# Altium integrated library Integrated_Library - 02.05.18 - 19.54.IntLib: 1 symbol
Pins are listed as number, name and electrical type; pins without a type are passive.

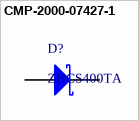
[diagram p0: symbol CMP-2000-07427-1]

## CMP-2000-07427-1
designator D?, comment ZHCS400TA
Schottky Barrier Diode, 40 V, 0.4 A, -55 to 150 degC, 2-Pin SMD, RoHS, Tape and Reel; Manufacturer: DiodesIncorporated; Type: SchottkyDiode; Vrrm - Repetitive Reverse Voltage: 40V; Ir - Reverse Current: 40uAat30V; Ifsm - Forward Surge Current: 6.75A; Vf - Forward Voltage: 1.05Vat1.5A; If - Forward Current: 1A; Configuration: Single; Unit Weight: 0.000173oz; Package / Case: SOD-323; Package Description: 2-Pin Surface Mount Device, Body 1.7 x 1.3 mm; Width: 1.45mm; Mounting Style: SMD/SMT; Length: 1.8mm; Packaging: Reel; Height: 0.8mm; Technology: Si; Mounting Technology: SurfaceMount; RoHS: True; Maximum Operating Temperature: +150C; Series: ZHCS400; Factory Pack Quantity: 3000; Minimum Operating Temperature: -55C; Datasheet Version: Rev. 8-2, 03/2012; Product: SchottkyDiodes; Termination Style: SMD/SMT; Brand: DiodesIncorporated; Manufacturer URL: http://www.diodes.com/; Product Category: SchottkyDiodes&Rectifiers; Datasheet URL: http://www.diodes.com/_files/datasheets/ZHCS400.pdf; Package URL: http://www.vishay.com/docs/71192/71192.pdf; Package Reference: SOD323-2
footprint DIOD-SOD323-2_V (SOD-323, 2-Leads, Body 1.7x1.3mm, Lead Span 2.5mm)
pins: 1 A, 2 K